# EAGLE library part PI3B3251QE (library PI3B3251QE)
Encoders, Decoders, Multiplexers & Demultiplexers 3.3V 8:1 Demux Mux Bus Switch Source: Datasheet <https://componentsearchengine.com/Datasheets/1/PI3B3251QE.pdf>
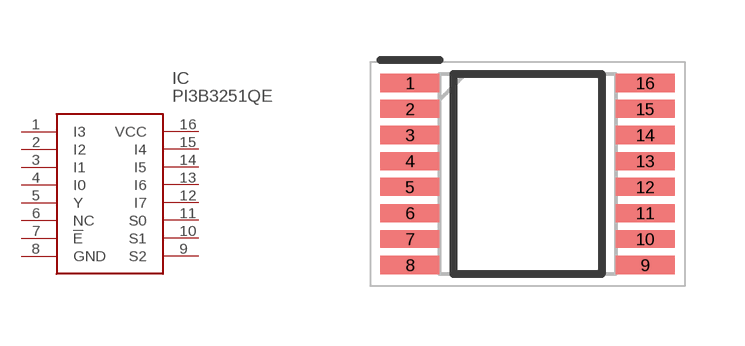
[diagram p0: symbol with the pads of SOP65P640X120-16N; footprint SOP65P640X120-16N]

Designator prefix IC

## PI3B3251QE (Description: Encoders, Decoders, Multiplexers & Demultiplexers 3.3V 8:1 Demux Mux Bus Switch; Height: 1.2mm; Manufacturer_Name: Diodes Incorporated; Manufacturer_Part_Number: PI3B3251QE; Mouser_Part_Number: 729-PI3B3251QE; Mouser_Price-Stock: https://www.mouser.com/Search/Refine.aspx?Keyword=729-PI3B3251QE)  [SOP65P640X120-16N]
1  I3
2  I2
3  I1
4  I0
5  Y
6  NC  nc
7  !E
8  GND
9  S2
10  S1
11  S0
12  I7
13  I6
14  I5
15  I4
16  VCC

## Footprint SOP65P640X120-16N (pad centres in mm)
16-TSSOP (L)A
smd 1.475 x 0.45: 1 -2.938,2.275; 2 -2.938,1.625; 3 -2.938,0.975; 4 -2.938,0.325; 5 -2.938,-0.325; 6 -2.938,-0.975; 7 -2.938,-1.625; 8 -2.938,-2.275; 9 2.938,-2.275; 10 2.938,-1.625; 11 2.938,-0.975; 12 2.938,-0.325; 13 2.938,0.325; 14 2.938,0.975; 15 2.938,1.625; 16 2.938,2.275